# EAGLE library part XBEE (library radish)
XBee (TM) /XBee-PRO(TM) OEM RF Modules Source: MaxStream, Inc. xbee_productmanual.pdf
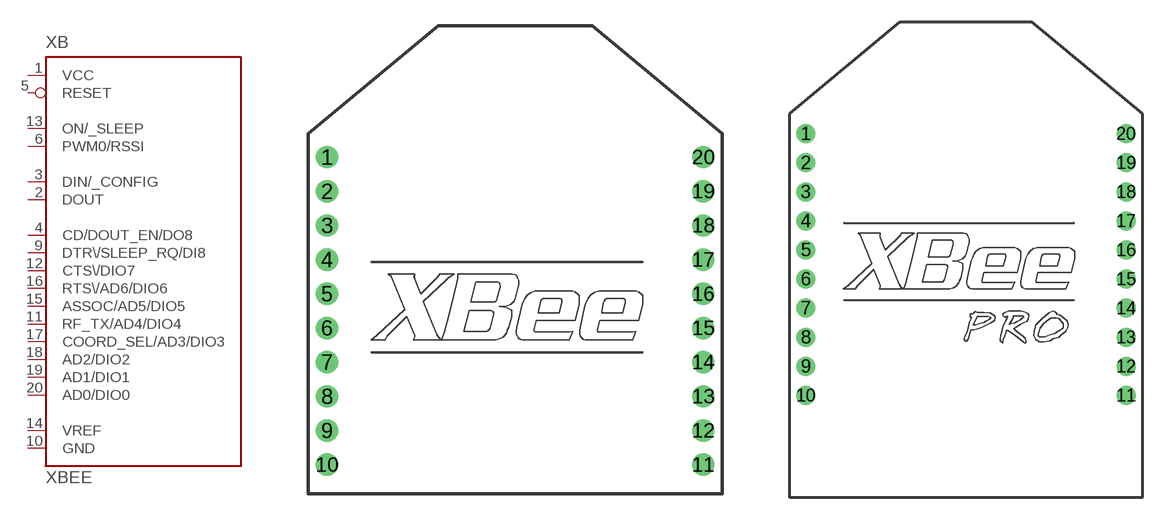
[diagram p5: symbol with the pads of XBEE; footprints XBEE, XBEE-PRO]

Designator prefix XB

## XBEE  [XBEE]
1  VCC  in
2  DOUT  out
3  DIN/_CONFIG  in
4  CD/DOUT_EN/DO8  out
5  RESET
6  PWM0/RSSI  out
9  DTR\/SLEEP_RQ/DI8
10  GND  pwr
11  RF_TX/AD4/DIO4
12  CTS\/DIO7
13  ON/_SLEEP  out
14  VREF  in
15  ASSOC/AD5/DIO5
16  RTS\/AD6/DIO6
17  COORD_SEL/AD3/DIO3
18  AD2/DIO2
19  AD1/DIO1
20  AD0/DIO0

## XBEE-PRO  [XBEE-PRO]
Pads as for XBEE

## Footprint XBEE (pad centres in mm)
XBEE Source: http://www.maxstream.net/products/xbee/datasheet_XBee_OEM_RF-Modules.pdf
drill 0.8 pad 1.27 round: 1 -11,7.73; 2 -11,5.73; 3 -11,3.73; 4 -11,1.73; 5 -11,-0.27; 6 -11,-2.27; 7 -11,-4.27; 8 -11,-6.27; 9 -11,-8.27; 10 -11,-10.27; 11 11,-10.27; 12 11,-8.27; 13 11,-6.27; 14 11,-4.27; 15 11,-2.27; 16 11,-0.27; 17 11,1.73; 18 11,3.73; 19 11,5.73; 20 11,7.73

## Footprint XBEE-PRO (pad centres in mm)
XBEE Pro Source: http://www.maxstream.net/products/xbee/datasheet_XBee_OEM_RF-Modules.pdf
drill 0.8 pad 1.27 round: 1 -11,9; 2 -11,7; 3 -11,5; 4 -11,3; 5 -11,1; 6 -11,-1; 7 -11,-3; 8 -11,-5; 9 -11,-7; 10 -11,-9; 11 11,-9; 12 11,-7; 13 11,-5; 14 11,-3; 15 11,-1; 16 11,1; 17 11,3; 18 11,5; 19 11,7; 20 11,9